# Altium footprint library PCB - DIODES - DIODES X1-DFN1006-2 SWP TYPE C.PcbLib: 1 footprints
Each footprint in its own frame and in the unit in brackets; x right, y up, seen from the top. Pads: shape width x height; smd on the part's side, far side on the other; paste and mask are expansions set on the pad; w line width, h text height; cw(c..) or ccw(c..) is an arc to the next point about the centre after c.
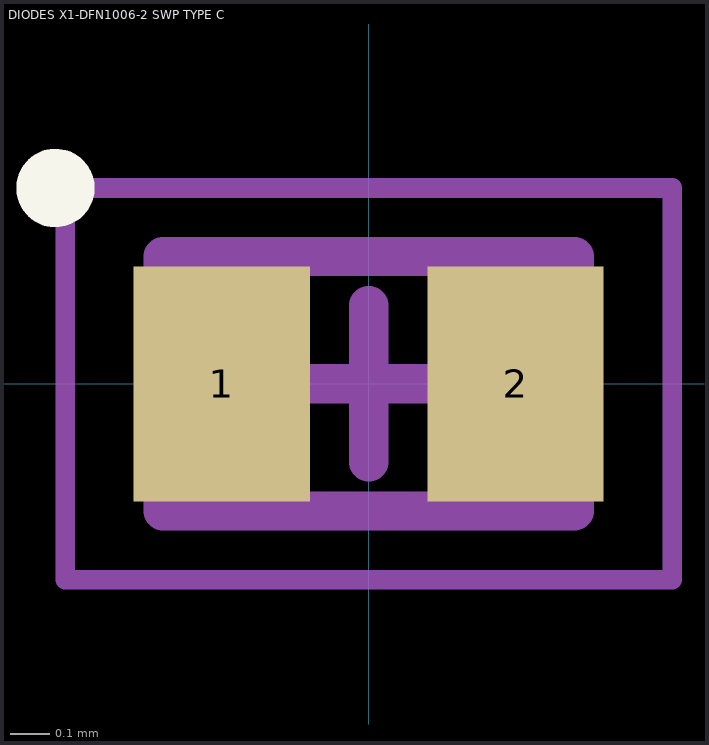
[diagram p0: the footprint, top view; thin cyan lines are the x and y axes]

## DIODES X1-DFN1006-2 SWP TYPE C [mm] "DFN, 2-Leads, Body 0.60x1.00mm, Pitch 0.70mm"
height 0.47
pads (2):
  rect 0.45x0.6 smd: 1(-0.375,0) 2(0.375,0)
Top Overlay:
  circle w0.1: c-0.8,0.5 r0.05
Mechanical 13:
  rectangle: -0.525,-0.3 -0.3,0.325
  lines w0.1: -0.3,-0.3 -0.3,0.3 ; -0.525,-0.325 -0.525,0.325 0.525,0.325 0.525,-0.325 -0.525,-0.325
Mechanical 15:
  lines w0.05: -0.775,-0.5 -0.775,0.5 0.775,0.5 0.775,-0.5 -0.775,-0.5
  lines w0.1: -0.5,0 0.5,0 ; 0,-0.2 0,0.2
3D body "DIODES X1-DFN1006-2 SWP TYPE C.step": height 0.47, standoff 0, extent -0.54,-0.325 0.54,0.325